# Altium footprint library descret_pcb.PcbLib: 152 footprints (part 8 of 10)
Each footprint in its own frame and in the unit in brackets; x right, y up, seen from the top. Pads: shape width x height; smd on the part's side, far side on the other; paste and mask are expansions set on the pad; w line width, h text height; cw(c..) or ccw(c..) is an arc to the next point about the centre after c.
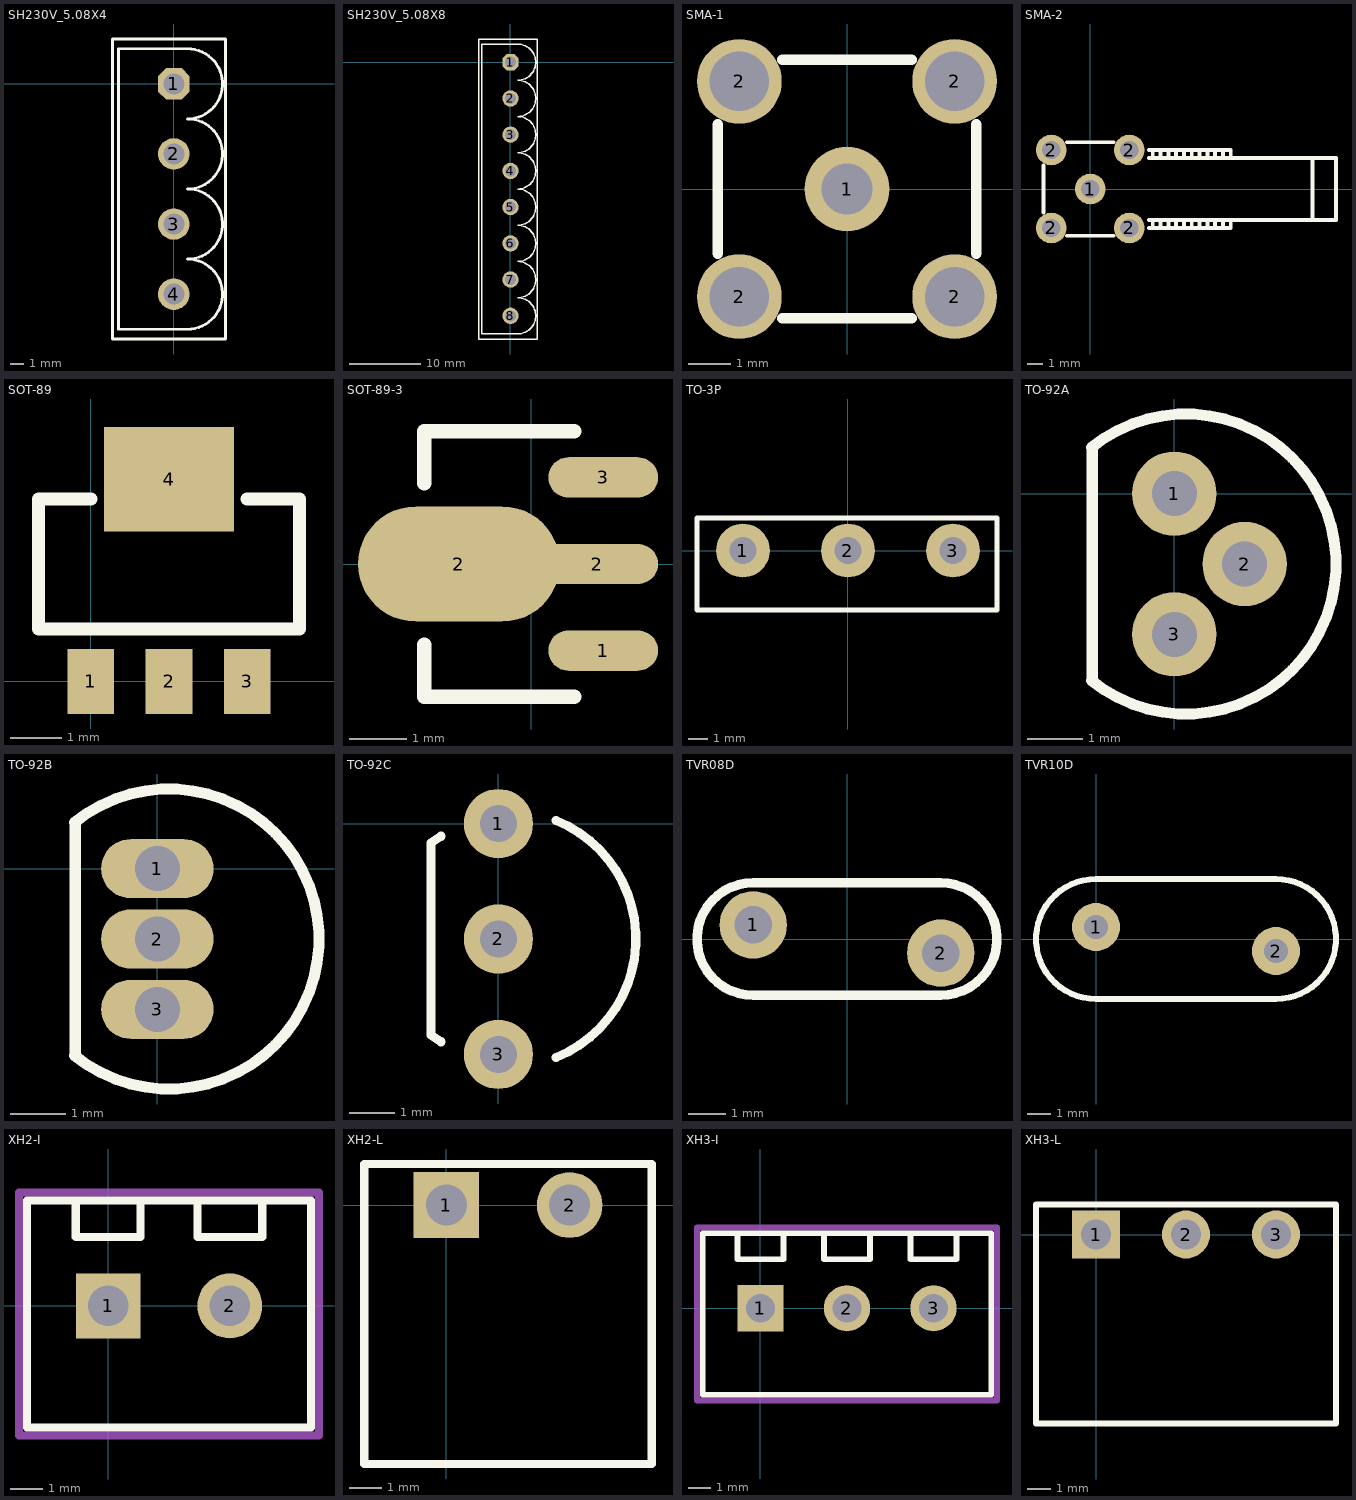
[diagram p7: the footprints below, top view; thin cyan lines are the x and y axes]

## SH230V_5.08X4 [mil]
pads (4):
  oct 90x90 hole 60: 1(0,0)
  round 90 hole 60: 2(0,-200) 3(0,-400) 4(0,-600)
TopOverlay:
  lines w8: -175.2,-727.95 147.64,-727.95 147.64,127.95 -175.2,127.95 -175.2,-727.95 ; -157.48,-700 39,-700 ccw(c39,-600) 39,-500 ccw(c39,-400) 39,-300 ccw(c39,-200) 39,-100 ccw(c39,0) 39,100 -157.48,100 -157.48,-700

## SH230V_5.08X8 [mil]
pads (8):
  oct 90x90 hole 60: 1(0,0)
  round 90 hole 60: 2(0,-200) 3(0,-400) 4(0,-600) 5(0,-800) 6(0,-1000) 7(0,-1200) 8(0,-1400)
TopOverlay:
  lines w8: -175.2,-1527.95 -175.2,127.95 147.64,127.95 147.64,-1527.95 -175.2,-1527.95 ; -157.48,-1500 -157.48,100 39,100 cw(c39,0) 39,-100 cw(c39,-200) 39,-300 cw(c39,-400) 39,-500 cw(c39,-600) 39,-700 cw(c39,-800) 39,-900 cw(c39,-1000) 39,-1100 cw(c39,-1200) 39,-1300 cw(c39,-1400) 39,-1500 -157.48,-1500

## SMA-1 [mm]
pads (5):
  round 2 hole 1.2: 1(0,0)
  round 2 hole 1.4: 2(-2.54,-2.54) 2(-2.54,2.54) 2(2.54,-2.54) 2(2.54,2.54)
TopOverlay:
  lines w0.254: -3.048,-1.524 -3.048,1.524 ; -1.524,-3.048 1.524,-3.048 ; -1.524,3.048 1.524,3.048 ; 3.048,-1.524 3.048,1.524

## SMA-2 [mm]
pads (5):
  round 2 hole 1.2: 1(0,0) 2(-2.54,-2.54) 2(-2.54,2.54) 2(2.54,-2.54) 2(2.54,2.54)
TopOverlay:
  lines w0.254: -3.048,-1.524 -3.048,1.524 ; -1.524,-3.048 1.524,-3.048 ; -1.524,3.048 1.524,3.048 ; 3.81,-2.54 9.144,-2.54 9.144,-2.032 ; 3.81,-2.032 16.002,-2.032 16.002,2.032 3.81,2.032 ; 3.81,2.54 9.144,2.54 9.144,2.032 ; 4.064,-2.54 4.064,-2.032 ; 4.064,2.032 4.064,2.54 ; 4.572,-2.54 4.572,-2.032 ; 4.572,2.032 4.572,2.54 ; 5.08,-2.54 5.08,-2.032 ; 5.08,2.032 5.08,2.54 ; 5.588,-2.54 5.588,-2.032 ; 5.588,2.032 5.588,2.54 ; 6.096,-2.54 6.096,-2.032 ; 6.096,2.032 6.096,2.54 ; 6.604,-2.54 6.604,-2.032 ; 6.604,2.032 6.604,2.54 ; 7.112,-2.54 7.112,-2.032 ; 7.112,2.032 7.112,2.54 ; 7.62,-2.54 7.62,-2.032 ; 7.62,2.032 7.62,2.54 ; 8.128,-2.54 8.128,-2.032 ; 8.128,2.032 8.128,2.54 ; 8.636,-2.54 8.636,-2.032 ; 8.636,2.032 8.636,2.54 ; 14.478,-2.032 14.478,2.032

## SOT-89 [mil]
height 100
pads (4):
  rect 36x50 smd: 1(0,0) 2(60,0) 3(120,0)
  rect 100x80 smd: 4(60,155)
TopOverlay:
  lines w10: 0,140 -40,140 -40,40 160,40 160,140 120,140

## SOT-89-3 [mm]
pads (4):
  oval 1.9x0.7 smd: 1(1.25,-1.501) 3(1.25,1.501)
  oval 3.5x2 smd: 2(-1.25,0)
  oval 2.1x0.7 smd: 2(1.151,0)
TopOverlay:
  lines w0.254: -1.85,-1.4 -1.85,-2.3 0.75,-2.3 ; -1.85,1.4 -1.85,2.3 0.75,2.3

## TO-3P [mil]
pads (3):
  round 110 hole 55: 1(-215,0) 2(0,0) 3(215,0)
TopOverlay:
  lines w10: -309.06,-122.05 305.12,-122.05 305.12,66.93 -309.06,66.93 -309.06,-122.05

## TO-92A [mil]
pads (3):
  round 60 hole 32: 1(0,0) 2(50,-50) 3(0,-100)
TopOverlay:
  lines w7.87: -58.79,-132.9 ccw(c8.33,-50) -58.79,32.9 ; -58.33,-133.33 -58.33,33.33
3D body "User Library-TO-92_CB127.STEP": height 413.39, standoff -78.74, extent -50,-149.48 102.36,47.11

## TO-92B [mil]
pads (3):
  oval 80x42 hole 32: 1(0,0) 2(0,-50) 3(0,-100)
TopOverlay:
  lines w7.87: -58.79,-132.9 ccw(c8.33,-50) -58.79,32.9 ; -58.33,-133.33 -58.33,33.33
3D body "ALSRobot-TO-92A.STEP": height 354.33, standoff -78.74, extent -60.24,-144.49 94.27,44.49

## TO-92C [mil]
pads (3):
  round 60 hole 32: 1(0,0) 2(0,-100) 3(0,-200)
TopOverlay:
  lines w7.87: -49.71,-189.08 -58.33,-183.33 -58.33,-16.67 -49.71,-10.92 ; 49.85,-202.76 ccw(c8.33,-100) 49.85,2.76
3D body "ALSRobot-TO-92W.STEP": height 381.89, standoff -62.94, extent -62.99,-211.23 98.2,6.5

## TVR08D [mil]
pads (2):
  round 72 hole 40: 1(-100,15) 2(100,-15)
TopOverlay:
  lines w10: -100,-60 cw(c-100,0) -100,60 100,60 cw(c100,0) 100,-60 -100,-60

## TVR10D [mil]
pads (2):
  round 80 hole 40: 1(0,20) 2(300,-20)
TopOverlay:
  lines w10: 0,-100 cw(c0,0) 0,100 300,100 cw(c300,0) 300,-100 0,-100

## XH2-I [mil]
pads (2):
  rect 80x80 hole 50: 1(0,0)
  round 80 hole 50: 2(150,0)
TopOverlay:
  lines w10: -40,130 -40,85 40,85 40,130 ; 110,130 110,85 190,85 190,130 ; -100,-150 -100,130 250,130 250,-150 -100,-150
Mechanical1:
  lines w10: -110,-160 260,-160 260,140 -110,140 -110,-160

## XH2-L [mil]
pads (2):
  rect 80x80 hole 50: 1(0,0)
  round 80 hole 50: 2(150,0)
TopOverlay:
  lines w10: -100,-315 250,-315 250,50 -100,50 -100,-315

## XH3-I [mil]
pads (3):
  rect 80x80 hole 50: 1(0,0)
  round 80 hole 50: 2(150,0) 3(300,0)
TopOverlay:
  lines w10: -40,130 -40,85 40,85 40,130 ; 110,130 110,85 190,85 190,130 ; 260,130 260,85 340,85 340,130 ; -100,-150 400,-150 400,130 -100,130 -100,-150
Mechanical1:
  lines w10: -110,-160 -110,140 410,140 410,-160 -110,-160

## XH3-L [mil]
pads (3):
  rect 80x80 hole 50: 1(0,0)
  round 80 hole 50: 2(150,0) 3(300,0)
TopOverlay:
  lines w10: -100,-315 -100,50 400,50 400,-315 -100,-315